# EAGLE library part ESP-12E_F (library dl9sec_public)
ESP8266 Module ESP-12E/F https://wiki.ai-thinker.com/_media/esp8266/a014ps01.pdf
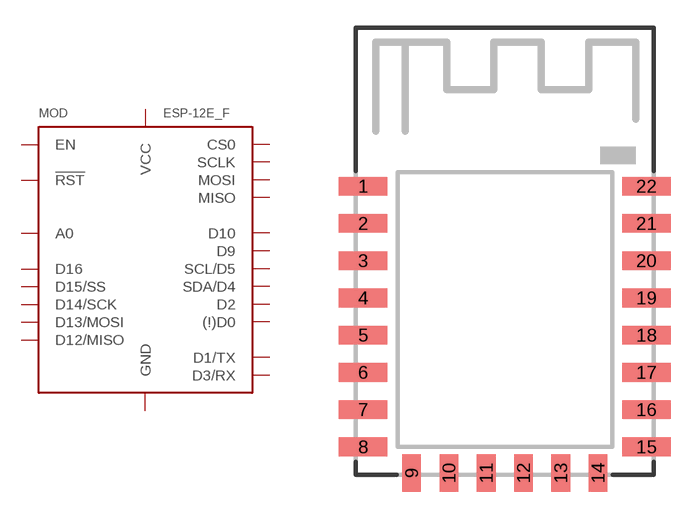
[diagram p15: symbol with the pads of ESP-12E_F; footprint ESP-12E_F]

Designator prefix MOD

## ESP-12E_F  [ESP-12E_F]
1  !RST!  in
2  A0  in
3  EN  in
4  D16
5  D14/SCK
6  D12/MISO
7  D13/MOSI
8  VCC  pwr
9  CS0
10  MISO
11  D9
12  D10
13  MOSI
14  SCLK
15  GND  pwr
16  D15/SS
17  D2
18  (!)D0
19  SDA/D4
20  SCL/D5
21  D3/RX
22  D1/TX

## Footprint ESP-12E_F (pad centres in mm)
ESP8266 Module 12E/12F
smd 2.6 x 1: 1 -7.6,7; 2 -7.6,5; 3 -7.6,3; 4 -7.6,1; 5 -7.6,-1; 6 -7.6,-3; 7 -7.6,-5; 8 -7.6,-7; 15 7.6,-7; 16 7.6,-5; 17 7.6,-3; 18 7.6,-1; 19 7.6,1; 20 7.6,3; 21 7.6,5; 22 7.6,7
smd 1 x 2: 9 -5,-8.4; 10 -3,-8.4; 11 -1,-8.4; 12 1,-8.4; 13 3,-8.4; 14 5,-8.4